# Altium schematic symbol library Tranzorb.Schlib: 1 symbol
Pins are listed as number, name and electrical type; pins without a type are passive.

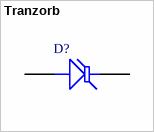
[diagram p0: symbol Tranzorb]

## Tranzorb
designator D?
Transient Voltage Suppression (TVS) Diode
pins: 1 A, 2 K